# Altium schematic symbol library Terminal.SchLib: 10 symbols
Pins are listed as number, name and electrical type; pins without a type are passive.

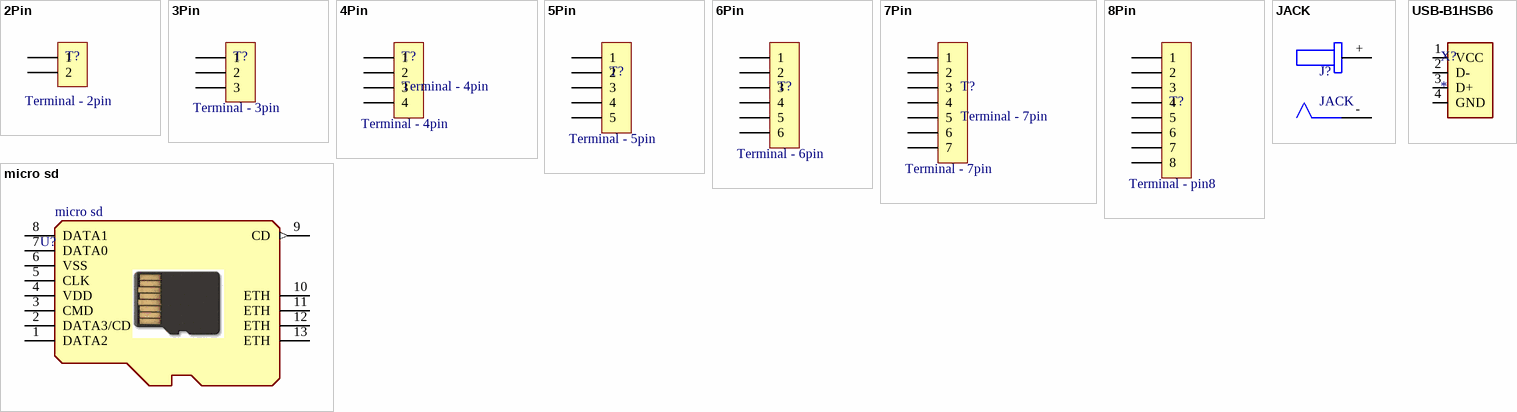
[diagram p0: symbols 2Pin to USB-B1HSB6]

## 2Pin
designator T?, comment Terminal - 2pin
VALUE: Terminal - 2pin
footprint 2Pin_Terminal
pins: 1, 2

## 3Pin
designator T?, comment Terminal - 3pin
VALUE: Terminal - 3pin
footprint 3Pin_Terminal
pins: 1, 2, 3

## 4Pin
designator T?, comment Terminal - 4pin
VALUE: Terminal - 4pin
footprint 4Pin_Terminal
pins: 1, 2, 3, 4

## 5Pin
designator T?, comment Terminal - 5pin
VALUE: Terminal - 5pin
footprint 5Pin_Terminal
pins: 1, 2, 3, 4, 5

## 6Pin
designator T?, comment Terminal - 6pin
VALUE: Terminal - 6pin
footprint 6Pin_Terminal
pins: 1, 2, 3, 4, 5, 6

## 7Pin
designator T?, comment Terminal - 7pin
VALUE: Terminal - 7pin
footprint 7Pin_Terminal
pins: 1, 2, 3, 4, 5, 6, 7

## 8Pin
designator T?, comment Terminal - pin8
VALUE: Terminal - pin8
footprint 8Pin_Terminal
pins: 1, 2, 3, 4, 5, 6, 7, 8

## JACK
designator J?
Value: JACK
footprint JACK
pins: +, -

## micro sd
designator U?
T-Flash 8pin SMT; Value: micro sd
footprint micro sd (T-FLASH PUSH-PUSH)
pins: 1 DATA2, 2 DATA3/CD, 3 CMD, 4 VDD, 5 CLK, 6 VSS, 7 DATA0, 8 DATA1, 9 CD (out), 10 ETH, 11 ETH, 12 ETH, 13 ETH
text: Card Bottom View

## USB-B1HSB6
designator X?
USB-B (USB TYPE-B) - Receptacle Connector 4 Position Through Hole, Right Angle; Value: *
footprint OST_USB-B1HSB6
pins: 1 VCC (power), 2 D- (io), 3 D+ (io), 4 GND (power)